# EAGLE library part 74HC86 (library IC)
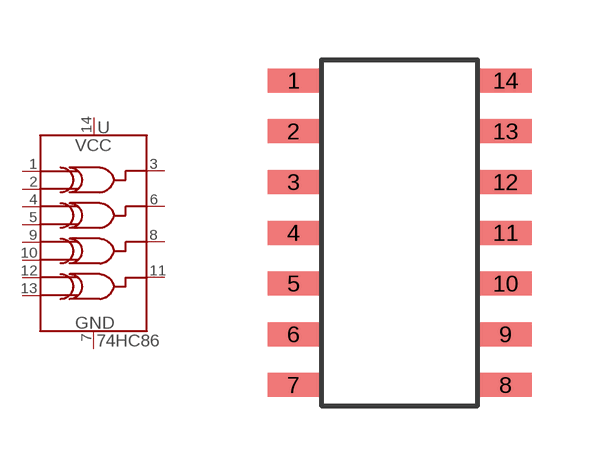
[diagram p22: symbol with the pads of SOIC-3.9MM-14; footprint SOIC-3.9MM-14]

Designator prefix U

## 74HC86 (MPN: 74HC86D,653)  [SOIC-3.9MM-14]
1  1A
2  1B
3  1Y
4  2A
5  2B
6  2Y
7  GND
8  3Y
9  3A
10  3B
11  4Y
12  4A
13  4B
14  VCC

## Footprint SOIC-3.9MM-14 (pad centres in mm)
smd 1.3 x 0.6: 1 -2.65,3.81; 2 -2.65,2.54; 3 -2.65,1.27; 4 -2.65,0; 5 -2.65,-1.27; 6 -2.65,-2.54; 7 -2.65,-3.81; 8 2.65,-3.81; 9 2.65,-2.54; 10 2.65,-1.27; 11 2.65,0; 12 2.65,1.27; 13 2.65,2.54; 14 2.65,3.81